# Altium footprint library Speaker Library.PcbLib: 36 footprints (part 3 of 3)
Each footprint in its own frame and in the unit in brackets; x right, y up, seen from the top. Pads: shape width x height; smd on the part's side, far side on the other; paste and mask are expansions set on the pad; w line width, h text height; cw(c..) or ccw(c..) is an arc to the next point about the centre after c.
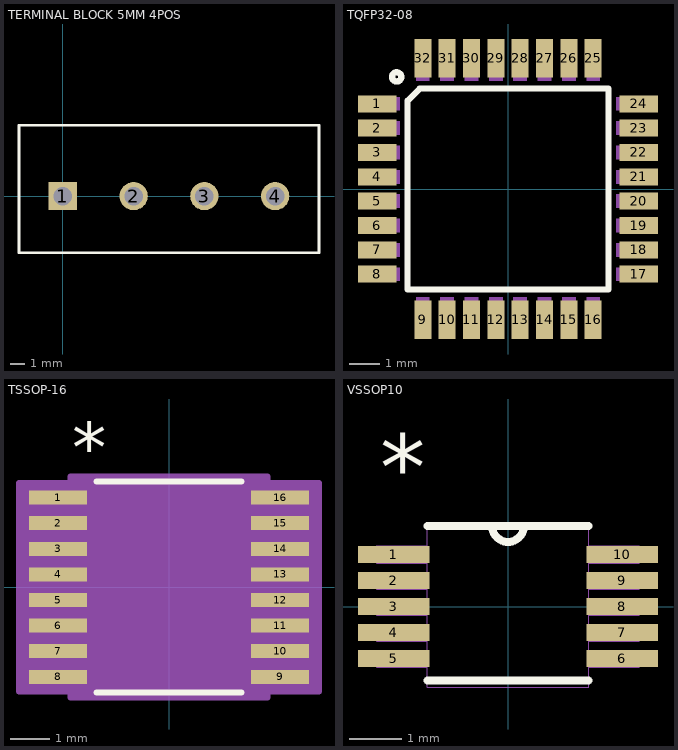
[diagram p2: the footprints below, top view; thin cyan lines are the x and y axes]

## TERMINAL BLOCK 5MM 4POS [mm]
pads (4):
  rect 2x2 hole 1.3: 1(0,0)
  round 2 hole 1.3: 2(5,0) 3(10,0) 4(15,0)
Top Overlay:
  lines w0.2: -3.1,-4 -3.1,5 18.1,5 18.1,-4 -3.1,-4

## TQFP32-08 [mil]
pads (32):
  rect 50x22 smd mask+2: 1(-169,110.24) 2(-169,78.74) 3(-169,47.24) 4(-169,15.75) 5(-169,-15.75) 6(-169,-47.24) 7(-169,-78.74) 8(-169,-110.24) 17(169,-110.24) 18(169,-78.74) 19(169,-47.24) 20(169,-15.75) 21(169,15.75) 22(169,47.24) 23(169,78.74) 24(169,110.24)
  rect 22x50 smd mask+2: 9(-110.24,-169) 10(-78.74,-169) 11(-47.24,-169) 12(-15.75,-169) 13(15.75,-169) 14(47.24,-169) 15(78.74,-169) 16(110.24,-169) 25(110.24,169) 26(78.74,169) 27(47.24,169) 28(15.75,169) 29(-15.75,169) 30(-47.24,169) 31(-78.74,169) 32(-110.24,169)
Top Overlay:
  circle w8: c-144,145 r6
  lines w8: -129.92,-129.92 129.92,-129.92 129.92,129.92 -114.17,129.92 -129.92,114.17 -129.92,-129.92
Mechanical 16:
  rectangle: -179,101.24 -140,119.24
  rectangle: -179,69.74 -140,87.74
  rectangle: -179,38.24 -140,56.24
  rectangle: -179,6.75 -140,24.75
  rectangle: -179,-24.75 -140,-6.75
  rectangle: -179,-56.24 -140,-38.24
  rectangle: -179,-87.74 -140,-69.74
  rectangle: -179,-119.24 -140,-101.24
  rectangle: -119.24,-179 -101.24,-140
  rectangle: -87.74,-179 -69.74,-140
  rectangle: -56.24,-179 -38.24,-140
  rectangle: -24.75,-179 -6.75,-140
  rectangle: 6.75,-179 24.75,-140
  rectangle: 38.24,-179 56.24,-140
  rectangle: 69.74,-179 87.74,-140
  rectangle: 101.24,-179 119.24,-140
  rectangle: 140,-119.24 179,-101.24
  rectangle: 140,-87.74 179,-69.74
  rectangle: 140,-56.24 179,-38.24
  rectangle: 140,-24.75 179,-6.75
  rectangle: 140,6.75 179,24.75
  rectangle: 140,38.24 179,56.24
  rectangle: 140,69.74 179,87.74
  rectangle: 140,101.24 179,119.24
  rectangle: 101.24,140 119.24,179
  rectangle: 69.74,140 87.74,179
  rectangle: 38.24,140 56.24,179
  rectangle: 6.75,140 24.75,179
  rectangle: -24.75,140 -6.75,179
  rectangle: -56.24,140 -38.24,179
  rectangle: -87.74,140 -69.74,179
  rectangle: -119.24,140 -101.24,179

## TSSOP-16 [mil]
pads (16):
  rect 58x14 smd: 1(-111,89.57) 2(-111,63.98) 3(-111,38.39) 4(-111,12.8) 5(-111,-12.8) 6(-111,-38.39) 7(-111,-63.98) 8(-111,-89.57) 9(111,-89.57) 10(111,-63.98) 11(111,-38.39) 12(111,-12.8) 13(111,12.8) 14(111,38.39) 15(111,63.98) 16(111,89.57)
Top Overlay:
  lines w6: -72.42,-105.5 72.42,-105.5 ; -72.42,105.5 72.42,105.5
  text "*" at -97,115 h50
Mechanical 13:
  lines w0: -12,100.5 ccw(c0,100.5) 12,100.5
Mechanical 15:
  region: -98.5,-104.36 -150,-104.36 -150,104.36 -98.5,104.36 -98.5,110.5 98.5,110.5 98.5,104.36 150,104.36 150,-104.36 98.5,-104.36 98.5,-110.5 -98.5,-110.5
  lines w6: -150,-104.36 -98.5,-104.36 -98.5,-110.5 98.5,-110.5 98.5,-104.36 150,-104.36 150,104.36 98.5,104.36 98.5,110.5 -98.5,110.5 -98.5,104.36 -150,104.36 -150,-104.36
3D body "RU_16.stp": height 47.01, standoff 0, extent -126,-100.5 126,100.5

## VSSOP10 [mil] "DGS (S-PDS0-G10"
pads (10):
  rect 54x13 smd mask+1: 1(-86.5,39.37) 2(-86.5,19.68) 3(-86.5,0) 4(-86.5,-19.68) 5(-86.5,-39.37) 6(86.5,-39.37) 7(86.5,-19.68) 8(86.5,0) 9(86.5,19.68) 10(86.5,39.37)
Top Overlay:
  lines w6: -61,-56 61,-56 ; -61,61 61,61 ; -12,61 ccw(c0,61) 12,61
  text "*" at -96.5,80.87 h50
Mechanical 1:
  lines w0: -12,61 ccw(c0,61) 12,61 ; -99.5,-45.87 -99.5,-32.87 -61,-32.87 -61,-45.87 -99.5,-45.87 ; -99.5,-26.18 -99.5,-13.19 -61,-13.19 -61,-26.18 -99.5,-26.18 ; -99.5,-6.5 -99.5,6.5 -61,6.5 -61,-6.5 -99.5,-6.5 ; -99.5,13.19 -99.5,26.18 -61,26.18 -61,13.19 -99.5,13.19 ; -99.5,32.87 -99.5,45.87 -61,45.87 -61,32.87 -99.5,32.87 ; -61,-61 61,-61 61,61 -61,61 -61,-61 ; 61,-45.87 61,-32.87 99.5,-32.87 99.5,-45.87 61,-45.87 ; 61,-26.18 61,-13.19 99.5,-13.19 99.5,-26.18 61,-26.18 ; 61,-6.5 61,6.5 99.5,6.5 99.5,-6.5 61,-6.5 ; 61,13.19 61,26.18 99.5,26.18 99.5,13.19 61,13.19 ; 61,32.87 61,45.87 99.5,45.87 99.5,32.87 61,32.87
  text "*" at -96.5,80.87 h50
3D body "DGS0010A.stp": height 41.73, standoff -1.57, extent -96.95,-59.05 96.95,59.06